# Altium schematic symbol library SCH - POWER - MODULE - FLEX PMU 8000.SCHLIB: 1 symbol
Pins are listed as number, name and electrical type; pins without a type are passive.

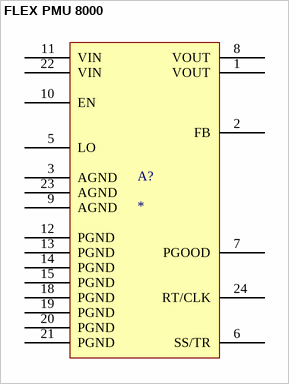
[diagram p0: symbol FLEX PMU 8000]

## FLEX PMU 8000
designator A?
pins: 1 VOUT, 2 FB, 3 AGND, 5 LO, 6 SS/TR, 7 PGOOD, 8 VOUT, 9 AGND, 10 EN, 11 VIN, 12 PGND, 13 PGND, 14 PGND, 15 PGND, 18 PGND, 19 PGND, 20 PGND, 21 PGND, 22 VIN, 23 AGND, 24 RT/CLK